# Altium footprint library LED_OF-SMD2835Y.PcbLib: 1 footprints
Each footprint in its own frame and in the unit in brackets; x right, y up, seen from the top. Pads: shape width x height; smd on the part's side, far side on the other; paste and mask are expansions set on the pad; w line width, h text height; cw(c..) or ccw(c..) is an arc to the next point about the centre after c.
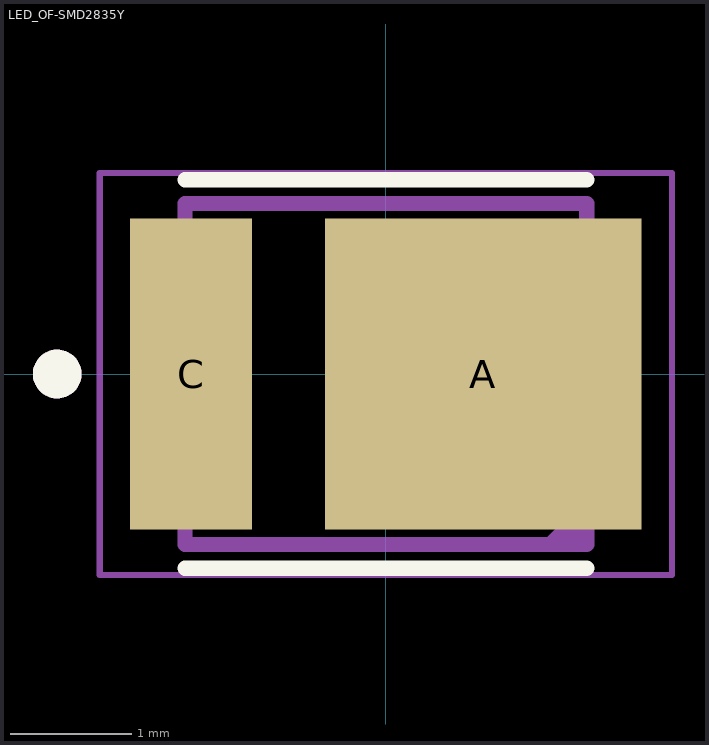
[diagram p0: the footprint, top view; thin cyan lines are the x and y axes]

## LED_OF-SMD2835Y [mm]
pads (2):
  rect 2.6x2.55 smd: A(0.8,0)
  rect 1x2.55 smd: C(-1.6,0)
Top Overlay:
  circle w0.2: c-2.7,0 r0.1
  lines w0.127: -1.65,-1.595 1.65,-1.595 ; -1.65,1.595 1.65,1.595
Mechanical 13:
  circle w0.2: c-2.7,0 r0.1
  lines w0.127: 1.35,-1.4 1.45,-1.4 ; 1.35,-1.4 -1.65,-1.4 -1.65,1.4 1.65,1.4 1.65,-1.1 ; 1.35,-1.4 1.65,-1.1 ; 1.45,-1.4 1.65,-1.4 1.65,-1.2 ; 1.45,-1.4 1.65,-1.2 ; 1.65,-1.2 1.65,-1.1
Mechanical 15:
  lines w0.05: -2.35,-1.65 2.35,-1.65 2.35,1.65 -2.35,1.65 -2.35,-1.65